# EAGLE library part SI5351A-*-GT (library ic-Silicon)
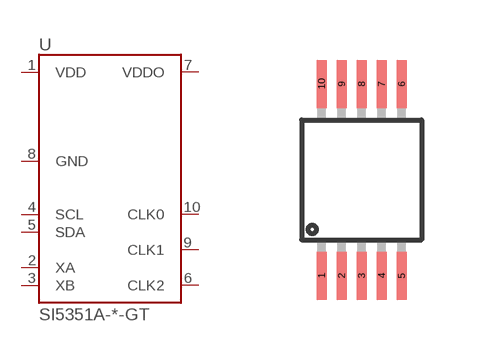
[diagram p4: symbol with the pads of MSOP10; footprint MSOP10]

Designator prefix U

## SI5351A-A-GT, SI5351A-B-GT  [MSOP10]
1  VDD
2  XA
3  XB
4  SCL
5  SDA
6  CLK2
7  VDDO
8  GND
9  CLK1
10  CLK0

## Footprint MSOP10 (pad centres in mm)
smd 0.25 x 1.2: 1 -1,-2.4; 2 -0.5,-2.4; 3 0,-2.4; 4 0.5,-2.4; 5 1,-2.4; 6 1,2.4; 7 0.5,2.4; 8 0,2.4; 9 -0.5,2.4; 10 -1,2.4